# EAGLE library part TXB0104-LEVELSHIFTER (library jos-ph)
TXB0104 Bi-Directional Level Shifter Breakout https://www.adafruit.com/products/1875
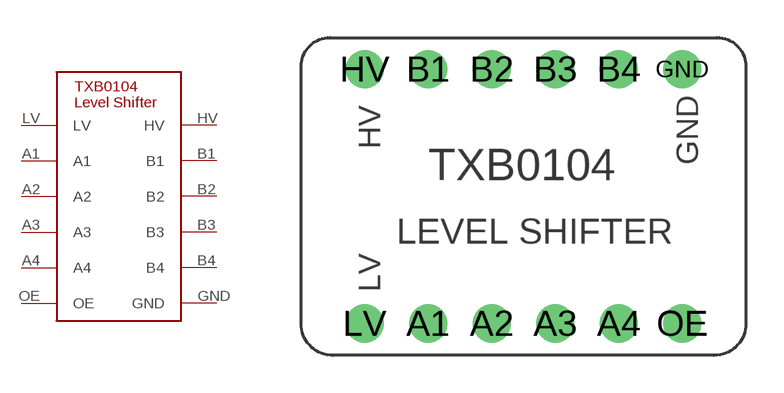
[diagram p8: symbol with the pads of TXB0104-LEVELSHIFTER; footprint TXB0104-LEVELSHIFTER]

Designator prefix -

## TXB0104-LEVELSHIFTER  [TXB0104-LEVELSHIFTER]
A1  A1
A2  A2
A3  A3
A4  A4
B1  B1
B2  B2
B3  B3
B4  B4
GND  GND
HV  HV
LV  LV
OE  OE

## Footprint TXB0104-LEVELSHIFTER (pad centres in mm)
drill 1.016: A1 -12.7,1.27; A2 -10.16,1.27; A3 -7.62,1.27; A4 -5.08,1.27; B1 -12.7,11.43; B2 -10.16,11.43; B3 -7.62,11.43; B4 -5.08,11.43; GND -2.54,11.43; HV -15.24,11.43; LV -15.24,1.27; OE -2.54,1.27